# Altium schematic symbol library 470uF 50V Elektrolikit Kapasitör.SchLib: 1 symbol
Pins are listed as number, name and electrical type; pins without a type are passive.

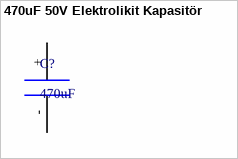
[diagram p0: symbol 470uF 50V Elektrolikit Kapasitör]

## 470uF 50V Elektrolikit Kapasitör
designator C?, comment 470uF
footprint 470uF 50V Elektrolikit Kapasitör
pins: +, -